# Altium schematic symbol library USB_HUB_VL813_1.SCHLIB: 47 symbols
Pins are listed as number, name and electrical type; pins without a type are passive.

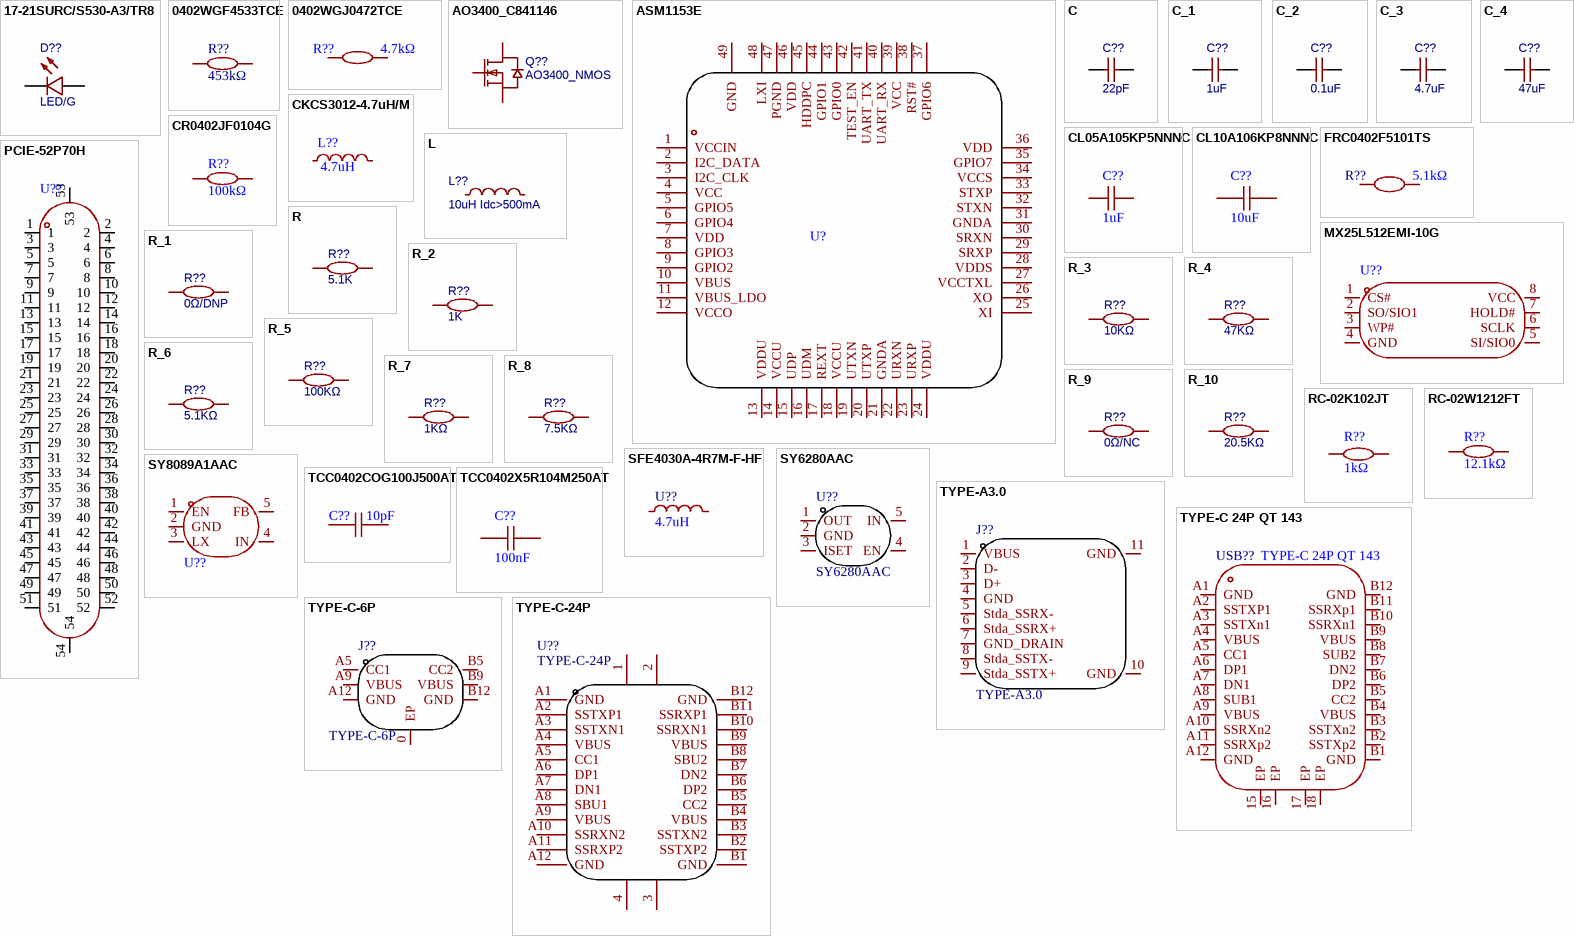
[diagram p0: symbols 17-21SURC/S530-A3/TR8 to TYPE-C-24P]

## 17-21SURC/S530-A3/TR8
designator D??, comment LED/G
BOM_Manufacturer: EVERLIGHT; BOM_Manufacturer Part: 17-21SURC/S530-A3/TR8; BOM_Supplier: LCSC; BOM_Supplier Part: C72037; BOM_JLCPCB Part Class: Extended Part; spicePre: L; spiceSymbolName: 17-21SURC/S530-A3/TR8
footprint LED0805-R-RD
pins: 1 A, 2 C

## 0402WGF4533TCE
designator R??, comment 453kΩ
Manufacturer: UNI-ROYAL(厚声); Symbol: 0402WGF4533TCE; Add into BOM: yes; Tolerance: ±1%; Power(Watts): 62.5mW; Overload Voltage (Max): 50V; Temperature Coefficient: ±100ppm/℃; Device: 0402WGF4533TCE; Supplier: LCSC; Manufacturer Part: 0402WGF4533TCE; Supplier Part: C27009; JLCPCB Part Class: Extended Part; LCSC Part Name: 453kΩ ±1% 62.5mW 厚膜电阻; Supplier Footprint: 0402; Datasheet: https://atta.szlcsc.com/upload/public/pdf/source/20200306/C422600_1E6D84923E4A46A82E41ADD87F860B5C.pdf; Convert to PCB: yes; Type: 厚膜电阻; Operating Temperature Range: -55℃~+155℃; Value: 453kΩ
footprint R0402
3D model R0402_L1.0-W0.5-H0.5
pins: 1, 2

## 0402WGJ0472TCE
designator R??, comment 4.7kΩ
Manufacturer: UNI-ROYAL(厚声); Symbol: 0402WGJ0472TCE; Add into BOM: yes; Tolerance: ±5%; Power(Watts): 1/16W; Temperature Coefficient: ±100ppm/; Overload Voltage (Max): 50V; Device: 0402WGJ0472TCE; LCSC Part Name: 4.7kΩ ±5%; Supplier Part: C25940; Manufacturer Part: 0402WGJ0472TCE; Supplier Footprint: 0402; JLCPCB Part Class: Extended Part; Datasheet: https://atta.szlcsc.com/upload/public/pdf/source/20200306/C422600_1E6D84923E4A46A82E41ADD87F860B5C.pdf; Supplier: LCSC; Convert to PCB: yes; Type: 厚膜电阻; Value: 4.7kΩ; Operating Temperature Range: -55~+155
footprint R0402
3D model R0402_L1.0-W0.5-H0.5
pins: 1, 2

## AO3400_C841146
designator Q??, comment AO3400_NMOS
BOM_Manufacturer: LGE; BOM_Manufacturer Part: AO3400; Contributor: LCSC; BOM_Supplier: LCSC; BOM_Supplier Part: C841146; BOM_JLCPCB Part Class: Extended Part; spicePre: Q; spiceSymbolName: AO3400_C841146
footprint SOT-23-3_L2.9-W1.3-P1.90-LS2.4-BR
pins: 1 G, 2 S, 3 D

## ASM1153E
designator U?  (value not drawn)
USB3.0 to SATA Bridge Controller; Add into BOM: yes; Symbol: ASM1153E; Device: ASM1153E; LCSC Part Name: ASM1153E; Supplier Part: C2762919; Manufacturer Part: ASM1153E; Supplier Footprint: LQFN-48_EP_6.0x6.0x0.4P; JLCPCB Part Class: Extended Part; Datasheet: 2021-03-22/601605W/2276bd4a79cf4165b237c0c17b58d9ef/ASM1153Datasheetv1_1.pdf; Supplier: LCSC; Convert to PCB: yes
footprint QFN-48_L6.0-W6.0-P0.40-BL-EP4.2
3D model QFN-48_L6.0-W6.0-H0.9-P0.40-BL-EP4.2
pins: 1 VCCIN, 2 I2C_DATA, 3 I2C_CLK, 4 VCC, 5 GPIO5, 6 GPIO4, 7 VDD, 8 GPIO3, 9 GPIO2, 10 VBUS, 11 VBUS_LDO, 12 VCCO, 13 VDDU, 14 VCCU, 15 UDP, 16 UDM, 17 REXT, 18 VCCU, 19 UTXN, 20 UTXP, 21 GNDA, 22 URXN, 23 URXP, 24 VDDU, 25 XI, 26 XO, 27 VCCTXL, 28 VDDS, 29 SRXP, 30 SRXN, 31 GNDA, 32 STXN, 33 STXP, 34 VCCS, 35 GPIO7, 36 VDD, 37 GPIO6, 38 RST#, 39 VCC, 40 UART_RX, 41 UART_TX, 42 TEST_EN, 43 GPIO0, 44 GPIO1, 45 HDDPC, 46 VDD, 47 PGND, 48 LXI, 49 GND

## C
designator C??, comment 22pF
BOM_Manufacturer: FH; BOM_Manufacturer Part: 0603F104M500NT; nameAlias: Capacitance; BOM_Supplier: LCSC; BOM_Supplier Part: C42998; BOM_JLCPCB Part Class: Extended Part; spicePre: C; spiceSymbolName: 0603F104M500NT
footprint C0603
footprint C0805
pins: 1, 2

## C_1
designator C??, comment 1uF
BOM_Manufacturer: FH; BOM_Manufacturer Part: 0603F104M500NT; nameAlias: Capacitance; BOM_Supplier: LCSC; BOM_Supplier Part: C42998; BOM_JLCPCB Part Class: Extended Part; spicePre: C; spiceSymbolName: 0603F104M500NT
footprint C0603
footprint C0805
pins: 1, 2

## C_2
designator C??, comment 0.1uF
BOM_Manufacturer: FH; BOM_Manufacturer Part: 0603F104M500NT; nameAlias: Capacitance; BOM_Supplier: LCSC; BOM_Supplier Part: C42998; BOM_JLCPCB Part Class: Extended Part; spicePre: C; spiceSymbolName: 0603F104M500NT
footprint C0603
footprint C0805
pins: 1, 2

## C_3
designator C??, comment 4.7uF
BOM_Manufacturer: FH; BOM_Manufacturer Part: 0603F104M500NT; nameAlias: Capacitance; BOM_Supplier: LCSC; BOM_Supplier Part: C42998; BOM_JLCPCB Part Class: Extended Part; spicePre: C; spiceSymbolName: 0603F104M500NT
footprint C0603
footprint C0805
pins: 1, 2

## C_4
designator C??, comment 47uF
BOM_Manufacturer: FH; BOM_Manufacturer Part: 0603F104M500NT; nameAlias: Capacitance; BOM_Supplier: LCSC; BOM_Supplier Part: C42998; BOM_JLCPCB Part Class: Extended Part; spicePre: C; spiceSymbolName: 0603F104M500NT
footprint C5*5
footprint C0805
pins: 1, 2

## CKCS3012-4.7uH/M
designator L??, comment 4.7uH
Manufacturer: CENKER(岑科); Symbol: CKCS3012-4.7UH/M; Add into BOM: yes; Tolerance: ±20%; Rated Current: 1.24A; DC Resistance (DCR): 120mΩ; Device: CKCS3012-4.7uH/M; LCSC Part Name: 4.7uH ±20% 1.24A 120mΩ; Supplier Part: C354557; Manufacturer Part: CKCS3012-4.7uH/M; Supplier Footprint: SMD; JLCPCB Part Class: Extended Part; Datasheet: https://atta.szlcsc.com/upload/public/pdf/source/20190115/C354557_61A3705615E4FADB9C94D2137EE09B6B.pdf; Supplier: LCSC; Convert to PCB: yes; Value: 4.7uH
footprint IND-SMD_L3.0-W3.0-1
3D model IND-SMD_L3.0-W3.0-1
pins: 1, 2

## CL05A105KP5NNNC
designator C??, comment 1uF
Manufacturer: SAMSUNG(三星); Symbol: CL05A105KP5NNNC; Add into BOM: yes; Tolerance: ±10%; Voltage Rated: 10V; Temperature Coefficient: X5R; Device: CL05A105KP5NNNC; LCSC Part Name: 1uF ±10% 10V; Supplier Part: C14445; Manufacturer Part: CL05A105KP5NNNC; Supplier Footprint: 0402; JLCPCB Part Class: Extended Part; Datasheet: https://atta.szlcsc.com/upload/public/pdf/source/20160103/1457707670698.pdf; Supplier: LCSC; Convert to PCB: yes; Value: 1uF
footprint C0402
3D model C0402_L1.0-W0.5-H0.5
pins: 1, 2

## CL10A106KP8NNNC
designator C??, comment 10uF
Manufacturer: SAMSUNG(三星); Symbol: CL10A106KP8NNNC; Add into BOM: yes; Tolerance: ±10%; Voltage Rated: 10V; Temperature Coefficient: X5R; Device: CL10A106KP8NNNC; LCSC Part Name: 10uF ±10% 10V; Supplier Part: C19702; Manufacturer Part: CL10A106KP8NNNC; Supplier Footprint: 0603; JLCPCB Part Class: Basic Part; Datasheet: https://atta.szlcsc.com/upload/public/pdf/source/20160103/1457707703378.pdf; Supplier: LCSC; Convert to PCB: yes; Value: 10uF
footprint C0603
3D model C0603_L1.6-W0.8-H0.8
pins: 1, 2

## CR0402JF0104G
designator R??, comment 100kΩ
Manufacturer: LIZ(丽智电子); Symbol: CR0402JF0104G; Add into BOM: yes; Tolerance: ±5%; Power(Watts): 62.5mW; Temperature Coefficient: ±200ppm/; Overload Voltage (Max): 50V; Device: CR0402JF0104G; LCSC Part Name: 100kΩ ±5% 62.5mW; Supplier Part: C100573; Manufacturer Part: CR0402JF0104G; Supplier Footprint: 0402; JLCPCB Part Class: Extended Part; Datasheet: https://atta.szlcsc.com/upload/public/pdf/source/20170408/1491631220702.pdf; Supplier: LCSC; Convert to PCB: yes; Type: 厚膜电阻; Operating Temperature Range: -55~+125; Value: 100kΩ
footprint R0402
3D model R0402_L1.0-W0.5-H0.5
pins: 1, 2

## FRC0402F5101TS
designator R??, comment 5.1kΩ
Manufacturer: FOJAN(富捷); Symbol: FRC0402F5101TS; Add into BOM: yes; Tolerance: ±1%; Power(Watts): 62.5mW; Overload Voltage (Max): 50V; Temperature Coefficient: ±100ppm/℃; Device: FRC0402F5101TS; LCSC Part Name: 5.1kΩ ±1% 62.5mW 厚膜电阻; Supplier Part: C2906874; Manufacturer Part: FRC0402F5101TS; Supplier Footprint: 0402; JLCPCB Part Class: 扩展库; Datasheet: https://atta.szlcsc.com/upload/public/pdf/source/20211221/925EC7D7225764EE0046F22065062C87.pdf; Supplier: LCSC; Convert to PCB: yes; Type: 厚膜电阻; Value: 5.1kΩ; Operating Temperature Range: -55℃~+155℃
footprint R0402
3D model R0402_L1.0-W0.5-H0.4
pins: 1, 2

## L
designator L??, comment 10uH Idc>500mA
BOM_Manufacturer Part: VHF160808H33NJT; BOM_Manufacturer: FH; nameAlias: Inductance; BOM_Supplier: LCSC; BOM_Supplier Part: C90209; BOM_JLCPCB Part Class: Extended Part; spicePre: L; spiceSymbolName: VHF160808H33NJT
footprint L0603
footprint Inductor
pins: 1, 2

## MX25L512EMI-10G
designator U??  (value not drawn)
Manufacturer: MXIC(旺宏电子); Symbol: MX25L512EMI-10G_C2803023; Add into BOM: yes; Device: MX25L512EMI-10G; LCSC Part Name: MX25L512EMI-10G; Supplier Part: C2803023; Manufacturer Part: MX25L512EMI-10G; Supplier Footprint: SOP-8; JLCPCB Part Class: Extended Part; Datasheet: https://atta.szlcsc.com/upload/public/pdf/source/20210906/B454D1B9C39ED3C00F3164A690CF7DD8.pdf; Supplier: LCSC; Convert to PCB: yes
footprint SOP-8_L5.0-W4.0-P1.27-LS6.0-BL
3D model SOP-8_L5.0-W4.0-H1.8-LS6.2-P1.27
pins: 1 CS#, 2 SO/SIO1, 3 WP#, 4 GND, 5 SI/SIO0, 6 SCLK, 7 HOLD#, 8 VCC

## PCIE-52P70H
designator U??  (value not drawn)
Manufacturer: XUNPU(讯普); Symbol: PCIE-52P70H_C2982554; Add into BOM: yes; Device: PCIE-52P70H; LCSC Part Name: PCIE-52P70H; Supplier Part: C2982554; Manufacturer Part: PCIE-52P70H; Supplier Footprint: SMD; JLCPCB Part Class: Extended Part; Datasheet: https://atta.szlcsc.com/upload/public/pdf/source/20220311/DC8B167F9A8E29C645B8AA97E9059897.pdf; Supplier: LCSC; Convert to PCB: yes
footprint PCIE-SMD_52P-P0.80_PCIE-52PXXH
3D model PCIE-SMD_52P-P0.80_PCIE-52PXXH
pins: 1, 2, 3, 4, 5, 6, 7, 8, 9, 10, 11, 12, 13, 14, 15, 16, 17, 18, 19, 20, 21, 22, 23, 24, 25, 26, 27, 28, 29, 30, 31, 32, 33, 34, 35, 36, 37, 38, 39, 40, 41, 42, 43, 44, 45, 46, 47, 48, 49, 50, 51, 52, 53, 54

## R
designator R??, comment 5.1K
BOM_Manufacturer: Guangdong Fenghua Advanced Tech; BOM_Manufacturer Part: RS-03K1002FT; Resistance (Ohms): 10K; nameAlias: Resistance; Contributor: LCSC; BOM_Supplier: LCSC; BOM_Supplier Part: C115324; spicePre: R; spiceSymbolName: RS-03K1002FT
footprint R0603
footprint R0805
pins: 1, 2

## R_1
designator R??, comment 0Ω/DNP
BOM_Manufacturer: Guangdong Fenghua Advanced Tech; BOM_Manufacturer Part: RS-03K1002FT; Resistance (Ohms): 10K; nameAlias: Resistance; Contributor: LCSC; BOM_Supplier: LCSC; BOM_Supplier Part: C115324; spicePre: R; spiceSymbolName: RS-03K1002FT
footprint R0603
footprint R0805
pins: 1, 2

## R_2
designator R??, comment 1K
BOM_Manufacturer: Guangdong Fenghua Advanced Tech; BOM_Manufacturer Part: RS-03K1002FT; Resistance (Ohms): 10K; nameAlias: Resistance; Contributor: LCSC; BOM_Supplier: LCSC; BOM_Supplier Part: C115324; spicePre: R; spiceSymbolName: RS-03K1002FT
footprint R0603
footprint R0805
pins: 1, 2

## R_3
designator R??, comment 10KΩ
BOM_Manufacturer: Guangdong Fenghua Advanced Tech; BOM_Manufacturer Part: RS-03K1002FT; Resistance (Ohms): 10K; nameAlias: Resistance; Contributor: LCSC; BOM_Supplier: LCSC; BOM_Supplier Part: C115324; spicePre: R; spiceSymbolName: RS-03K1002FT
footprint R0603
footprint R0805
pins: 1, 2

## R_4
designator R??, comment 47KΩ
BOM_Manufacturer: Guangdong Fenghua Advanced Tech; BOM_Manufacturer Part: RS-03K1002FT; Resistance (Ohms): 10K; nameAlias: Resistance; Contributor: LCSC; BOM_Supplier: LCSC; BOM_Supplier Part: C115324; spicePre: R; spiceSymbolName: RS-03K1002FT
footprint R0603
footprint R0805
pins: 1, 2

## R_5
designator R??, comment 100KΩ
BOM_Manufacturer: Guangdong Fenghua Advanced Tech; BOM_Manufacturer Part: RS-03K1002FT; Resistance (Ohms): 10K; nameAlias: Resistance; Contributor: LCSC; BOM_Supplier: LCSC; BOM_Supplier Part: C115324; spicePre: R; spiceSymbolName: RS-03K1002FT
footprint R0603
footprint R0805
pins: 1, 2

## R_6
designator R??, comment 5.1KΩ
BOM_Manufacturer: Guangdong Fenghua Advanced Tech; BOM_Manufacturer Part: RS-03K1002FT; Resistance (Ohms): 10K; nameAlias: Resistance; Contributor: LCSC; BOM_Supplier: LCSC; BOM_Supplier Part: C115324; spicePre: R; spiceSymbolName: RS-03K1002FT
footprint R0603
footprint R0805
pins: 1, 2

## R_7
designator R??, comment 1KΩ
BOM_Manufacturer: Guangdong Fenghua Advanced Tech; BOM_Manufacturer Part: RS-03K1002FT; Resistance (Ohms): 10K; nameAlias: Resistance; Contributor: LCSC; BOM_Supplier: LCSC; BOM_Supplier Part: C115324; spicePre: R; spiceSymbolName: RS-03K1002FT
footprint R0603
footprint R0805
pins: 1, 2

## R_8
designator R??, comment 7.5KΩ
BOM_Manufacturer: Guangdong Fenghua Advanced Tech; BOM_Manufacturer Part: RS-03K1002FT; Resistance (Ohms): 10K; nameAlias: Resistance; Contributor: LCSC; BOM_Supplier: LCSC; BOM_Supplier Part: C115324; spicePre: R; spiceSymbolName: RS-03K1002FT
footprint R0603
footprint R0805
pins: 1, 2

## R_9
designator R??, comment 0Ω/NC
BOM_Manufacturer: Guangdong Fenghua Advanced Tech; BOM_Manufacturer Part: RS-03K1002FT; Resistance (Ohms): 10K; nameAlias: Resistance; Contributor: LCSC; BOM_Supplier: LCSC; BOM_Supplier Part: C115324; spicePre: R; spiceSymbolName: RS-03K1002FT
footprint R0603
footprint R0805
pins: 1, 2

## R_10
designator R??, comment 20.5KΩ
BOM_Manufacturer: Guangdong Fenghua Advanced Tech; BOM_Manufacturer Part: RS-03K1002FT; Resistance (Ohms): 10K; nameAlias: Resistance; Contributor: LCSC; BOM_Supplier: LCSC; BOM_Supplier Part: C115324; spicePre: R; spiceSymbolName: RS-03K1002FT
footprint R0603
footprint R0805
pins: 1, 2

## RC-02K102JT
designator R??, comment 1kΩ
Manufacturer: FH(风华); Symbol: RS-02K102JT; Device: RC-02K102JT; Add into BOM: yes; Tolerance: ±5%; Power(Watts): 62.5mW; Temperature Coefficient: ±100ppm/; Overload Voltage (Max): 50V; LCSC Part Name: 1kΩ ±5% 62.5mW; Supplier Part: C140196; Manufacturer Part: RC-02K102JT; Supplier Footprint: 0402; JLCPCB Part Class: Extended Part; Datasheet: https://atta.szlcsc.com/upload/public/pdf/source/20171106/C140196_15099446043381092285.pdf; Supplier: LCSC; Convert to PCB: yes; Value: 1kΩ; Operating Temperature Range: -55~+155
footprint R0402
3D model R0402_L1.0-W0.5-H0.5
pins: 1, 2

## RC-02W1212FT
designator R??, comment 12.1kΩ
Manufacturer: FH(风华); Symbol: RC-02W1212FT; Add into BOM: yes; Tolerance: ±1%; Power(Watts): 62.5mW; Temperature Coefficient: ±200ppm/; Overload Voltage (Max): 50V; Device: RC-02W1212FT; LCSC Part Name: 12.1kΩ ±1% 62.5mW; Supplier Part: C321280; Manufacturer Part: RC-02W1212FT; Supplier Footprint: 0402; JLCPCB Part Class: Extended Part; Datasheet: https://atta.szlcsc.com/upload/public/pdf/source/20181129/C321280_9F126374E01D2C505D3C2BDB1D16BD85.pdf; Supplier: LCSC; Convert to PCB: yes; Value: 12.1kΩ; Operating Temperature Range: -55~+155
footprint R0402
3D model R0402_L1.0-W0.5-H0.5
pins: 1, 2

## SFE4030A-4R7M-F-HF
designator U??, comment 4.7uH
Manufacturer: DDY(德立); Symbol: SFE4030A-4R7M-F-HF; Add into BOM: yes; Tolerance: ±20%; Rated Current: 2.3A; Saturation Current (Isat): 3.2A; DC Resistance (DCR): 67mΩ; Device: SFE4030A-4R7M-F-HF; LCSC Part Name: 4.7uH ±20% 3.2A; Supplier Part: C5159670; Manufacturer Part: SFE4030A-4R7M-F-HF; Supplier Footprint: SMD,4x4mm; JLCPCB Part Class: 扩展库; Datasheet: https://atta.szlcsc.com/upload/public/pdf/source/20221009/E6A1C7112975AA831F7D1355BB828BA7.pdf; Supplier: LCSC; Convert to PCB: yes; Value: 4.7uH
footprint IND-SMD_L4.0-W4.0
3D model IND-SMD_L4.0-W4.0-H1.9
pins: 1, 2

## SY6280AAC
designator U??
footprint SOT-23-5_L3.0-W1.7-P0.95-LS2.8-BR
pins: 1 OUT, 2 GND, 3 ISET, 4 EN, 5 IN

## SY8089A1AAC
designator U??  (value not drawn)
Manufacturer: silergy(矽力杰); Add into BOM: yes; Symbol: SY8089A1AAC; Device: SY8089A1AAC; LCSC Part Name: SY8089A1AAC; Supplier Part: C479074; Manufacturer Part: SY8089A1AAC; Supplier Footprint: SOT-23-5; JLCPCB Part Class: 扩展库; Datasheet: https://atta.szlcsc.com/upload/public/pdf/source/20200117/C479074_09E605B8BDE11DB5A08573B7E6429A0D.pdf; Supplier: LCSC; Convert to PCB: yes
footprint TSOT-23-5_L2.9-W1.6-P0.95-LS2.8-BR
3D model TSOT-23-5_L2.9-W1.6-H1.00-LS2.8-P0.95
pins: 1 EN, 2 GND, 3 LX, 4 IN, 5 FB

## TCC0402COG100J500AT
designator C??, comment 10pF
Manufacturer: CCTC(三环); Symbol: TCC0402COG100J500AT; Add into BOM: yes; Tolerance: ±5%; Voltage Rated: 50V; Temperature Coefficient: C0G; Device: TCC0402COG100J500AT; LCSC Part Name: 10pF ±5% 50V; Supplier Part: C696913; Manufacturer Part: TCC0402COG100J500AT; Supplier Footprint: 0402; JLCPCB Part Class: Extended Part; Datasheet: https://atta.szlcsc.com/upload/public/pdf/source/20200707/C696841_89A2C111301AB76AE7642008585E7A11.pdf; Supplier: LCSC; Convert to PCB: yes; Value: 10pF
footprint C0402
3D model C0402_L1.0-W0.5-H0.5
pins: 1, 2

## TCC0402X5R104M250AT
designator C??, comment 100nF
Manufacturer: CCTC(三环); Symbol: TCC0402X5R104M250AT; Add into BOM: yes; Tolerance: ±20%; Voltage Rated: 25V; Temperature Coefficient: X5R; Device: TCC0402X5R104M250AT; LCSC Part Name: 100nF ±20% 25V; Supplier Part: C359190; Manufacturer Part: TCC0402X5R104M250AT; Supplier Footprint: 0402; JLCPCB Part Class: Extended Part; Datasheet: https://atta.szlcsc.com/upload/public/pdf/source/20190103/C359190_40860758378AF13613616C0AB9EED028.pdf; Supplier: LCSC; Convert to PCB: yes; Value: 100nF
footprint C0402
3D model C0402_L1.0-W0.5-H0.5
pins: 1, 2

## TYPE-A3.0
designator J??
footprint TYPE-A3.0
pins: 1 VBUS, 2 D-, 3 D+, 4 GND, 5 Stda_SSRX-, 6 Stda_SSRX+, 7 GND_DRAIN, 8 Stda_SSTX-, 9 Stda_SSTX+, 10 GND, 11 GND

## TYPE-C 24P QT 143
designator USB??
Manufacturer: SHOU HAN(首韩); Add into BOM: yes; Gender: 母; Number of Ports: 1; Current Rating - Power (Max): 5A; Connect-Disconnect Life: 1万次; Core Colour: 黑色; Symbol: TYPE-C 24P QT 143; Device: TYPE-C 24P QT 143; LCSC Part Name: Type-C 母 卧贴; Supplier Part: C5156605; Manufacturer Part: TYPE-C 24P QT 143; Supplier Footprint: SMD; JLCPCB Part Class: 扩展库; Datasheet: https://atta.szlcsc.com/upload/public/pdf/source/20220831/D9AE5CFF2AD0EFBF4D20F10BBA9527F7.pdf; Supplier: LCSC; Convert to PCB: yes; Connector Type: Type-C; Standard: USB 3.1; Mounting Style: 卧贴; Number of Contacts: 24P; Contact Material: -; Contact Plating: -; Operating Temperature Range: -30℃~+85℃; Soldering Temperature(Max): -
footprint TYPE-C-SMD_C9900025773
3D model TYPE-C-SMD_C9900025773
pins: 15 EP, 16 EP, 17 EP, 18 EP, A1 GND, A2 SSTXP1, A3 SSTXn1, A4 VBUS, A5 CC1, A6 DP1, A7 DN1, A8 SUB1, A9 VBUS, A10 SSRXn2, A11 SSRXp2, A12 GND, B1 GND, B2 SSTXp2, B3 SSTXn2, B4 VBUS, B5 CC2, B6 DP2, B7 DN2, B8 SUB2, B9 VBUS, B10 SSRXn1, B11 SSRXp1, B12 GND

## TYPE-C-6P
designator J??
footprint TYPE-C-6P
pins: 0 EP, A5 CC1, A9 VBUS, A12 GND, B5 CC2, B9 VBUS, B12 GND

## TYPE-C-24P
designator U??
Parameter 1: *
footprint TYPE-C-24P
pins: 1, 2, 3, 4, A1 GND, A2 SSTXP1, A3 SSTXN1, A4 VBUS, A5 CC1, A6 DP1, A7 DN1, A8 SBU1, A9 VBUS, A10 SSRXN2, A11 SSRXP2, A12 GND, B1 GND, B2 SSTXP2, B3 SSTXN2, B4 VBUS, B5 CC2, B6 DP2, B7 DN2, B8 SBU2, B9 VBUS, B10 SSRXN1, B11 SSRXP1, B12 GND

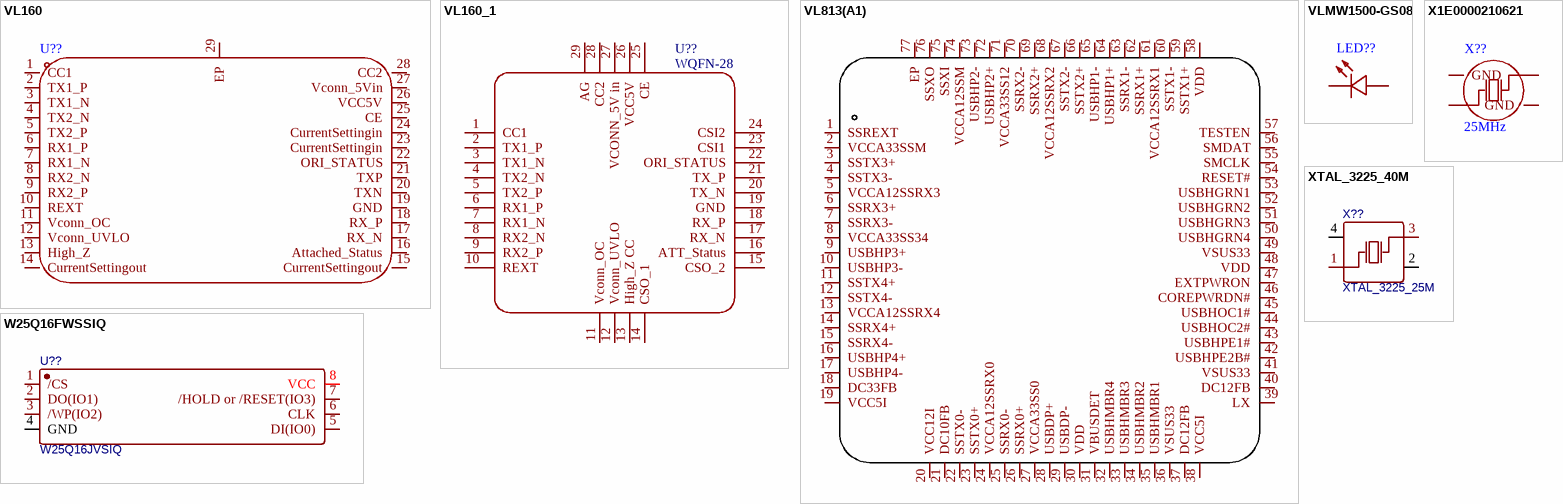
[diagram p1: symbols VL160 to XTAL_3225_40M]

## VL160
designator U??  (value not drawn)
Add into BOM: yes; Symbol: VL160; Device: VL160; LCSC Part Name: VL160; Supplier Part: C2841472; Manufacturer Part: VL160; Supplier Footprint: MQFN-28; JLCPCB Part Class: Extended Part; Datasheet: https://atta.szlcsc.com/upload/public/pdf/source/20210707/C2841472_23203D4DC0B460F77735B81667EEBB6C.pdf; Supplier: LCSC; Convert to PCB: yes; Type: -; Protocol: -; Number of Drivers/Receivers: -; Data Rate: -; Supply Voltage: -
footprint MQFN-28_L4.5-W3.5-P0.40-BL-EP
3D model MQFN-28_L4.5-W3.5-P0.40-BL-EP
pins: 1 CC1, 2 TX1_P, 3 TX1_N, 4 TX2_N, 5 TX2_P, 6 RX1_P, 7 RX1_N, 8 RX2_N, 9 RX2_P, 10 REXT, 11 Vconn_OC, 12 Vconn_UVLO, 13 High_Z, 14 CurrentSettingout, 15 CurrentSettingout, 16 Attached_Status, 17 RX_N, 18 RX_P, 19 GND, 20 TXN, 21 TXP, 22 ORI_STATUS, 23 CurrentSettingin, 24 CurrentSettingin, 25 CE, 26 VCC5V, 27 Vconn_5Vin, 28 CC2, 29 EP

## VL160_1
designator U??, comment WQFN-28
footprint WQFN-28
footprint WQFN-28
pins: 1 CC1, 2 TX1_P, 3 TX1_N, 4 TX2_N, 5 TX2_P, 6 RX1_P, 7 RX1_N, 8 RX2_N, 9 RX2_P, 10 REXT, 11 Vconn_OC, 12 Vconn_UVLO, 13 High_Z CC, 14 CSO_1, 15 CSO_2, 16 ATT_Status, 17 RX_N, 18 RX_P, 19 GND, 20 TX_N, 21 TX_P, 22 ORI_STATUS, 23 CSI1, 24 CSI2, 25 CE, 26 VCC5V, 27 VCONN_5V in, 28 CC2, 29 AG

## VL813(A1)
designator U??  (value not drawn)
Manufacturer: VIA(台湾威盛电子); Symbol: VL813(A1)_C209755; Add into BOM: yes; Name: VL813(A1); Device: VL813(A1); LCSC Part Name: VL813(A1); Supplier Part: C209755; Manufacturer Part: VL813(A1); Supplier Footprint: QFN-76_9x9x04P; JLCPCB Part Class: Extended Part; Datasheet: https://atta.szlcsc.com/upload/public/pdf/source/20180420/C209755_1BF0F45DD04BFA941B7FD492504FA511.pdf; Supplier: LCSC; Convert to PCB: yes; Type: -; Protocol: -; Number of Drivers/Receivers: -; Data Rate: -; Supply Voltage: -
footprint QFN-76
pins: 1 SSREXT, 2 VCCA33SSM, 3 SSTX3+, 4 SSTX3-, 5 VCCA12SSRX3, 6 SSRX3+, 7 SSRX3-, 8 VCCA33SS34, 9 USBHP3+, 10 USBHP3-, 11 SSTX4+, 12 SSTX4-, 13 VCCA12SSRX4, 14 SSRX4+, 15 SSRX4-, 16 USBHP4+, 17 USBHP4-, 18 DC33FB, 19 VCC5I, 20 VCC12I, 21 DC10FB, 22 SSTX0-, 23 SSTX0+, 24 VCCA12SSRX0, 25 SSRX0-, 26 SSRX0+, 27 VCCA33SS0, 28 USBDP+, 29 USBDP-, 30 VDD, 31 VBUSDET, 32 USBHMBR4, 33 USBHMBR3, 34 USBHMBR2, 35 USBHMBR1, 36 VSUS33, 37 DC12FB, 38 VCC5I, 39 LX, 40 DC12FB, 41 VSUS33, 42 USBHPE2B#, 43 USBHPE1#, 44 USBHOC2#, 45 USBHOC1#, 46 COREPWRDN#, 47 EXTPWRON, 48 VDD, 49 VSUS33, 50 USBHGRN4, 51 USBHGRN3, 52 USBHGRN2, 53 USBHGRN1, 54 RESET#, 55 SMCLK, 56 SMDAT, 57 TESTEN, 58 VDD, 59 SSTX1+, 60 SSTX1-, 61 VCCA12SSRX1, 62 SSRX1+, 63 SSRX1-, 64 USBHP1+, 65 USBHP1-, 66 SSTX2+, 67 SSTX2-, 68 VCCA12SSRX2, 69 SSRX2+, 70 SSRX2-, 71 VCCA33SS12, 72 USBHP2+, 73 USBHP2-, 74 VCCA12SSM, 75 SSXI, 76 SSXO, 77 EP

## VLMW1500-GS08
designator LED??  (value not drawn)
Manufacturer: VISHAY(威世); Add into BOM: yes; Emitted Color: 白灯; Forward Current: 5mA; Forward Voltage (VF): 2.9V; Luminous Intensity: 90mcd; Power Dissipation: 70mW; Symbol: VLMW1500-GS08; Device: VLMW1500-GS08; LCSC Part Name: 白灯; Supplier Part: C511379; Manufacturer Part: VLMW1500-GS08; Supplier Footprint: 0402; JLCPCB Part Class: Extended Part; Datasheet: https://atta.szlcsc.com/upload/public/pdf/source/20200408/C511379_C2F59698F604A60E2C48FD851172BBA0.pdf; Supplier: LCSC; Convert to PCB: yes; Diode Configuration: -; Lens Color: -; Dominant Wavelength: -; Peak Wavelength: -; Color Temperature: -; Luminous Flux (@25℃): -; Viewing Angle: -; Mounting Sytle: -; Operating Temperature: -30~+80
footprint LED0402-R-RD_WHITE
3D model LED0402-R-RD_WHITE
pins: 1 A, 2 K

## W25Q16FWSSIQ
designator U??, comment W25Q16JVSIQ
BOM_Manufacturer: Winbond Elec; BOM_Manufacturer Part: W25Q16FWSSIQ; Contributor: LCSC; BOM_Supplier: LCSC; BOM_Supplier Part: C377629; BOM_JLCPCB Part Class: Extended Part; spicePre: U; spiceSymbolName: W25Q16FWSSIQ
footprint SOIC-8_L5.3-W5.3-P1.27-LS8.0-BL
pins: 1 /CS, 2 DO(IO1), 3 /WP(IO2), 4 GND, 5 DI(IO0), 6 CLK, 7 /HOLD or /RESET(IO3), 8 VCC

## X1E0000210621
designator X??, comment 25MHz
Manufacturer: EPSON(爱普生); Symbol: X1E0000210621; Add into BOM: yes; Crystal Type: 贴片无源晶振; Frequency Tolerance: ±10ppm; Load Capacitance: 9pF; Equivalent Series Resistance (ESR): 40Ω; Device: X1E0000210621; LCSC Part Name: 25MHz ±10ppm 9pF; Supplier Part: C255920; Manufacturer Part: X1E0000210621; Supplier Footprint: SMD3225-4P; JLCPCB Part Class: Extended Part; Datasheet: https://atta.szlcsc.com/upload/public/pdf/source/20180822/C255920_F9528E19433D1B377CB88CCBF483E490.pdf; Supplier: LCSC; Convert to PCB: yes; Value: 25MHz; Frequency Stability: -; Operating Temperature: -40~+85
footprint CRYSTAL-SMD_4P-L3.2-W2.5-BL
3D model OSC-SMD_4P-L3.2-W2.5-H1.0
pins: 1 OSC1, 2 GND, 3 OSC2, 4 GND

## XTAL_3225_40M
designator X??, comment XTAL_3225_25M
BOM_Manufacturer: YXC; BOM_Manufacturer Part: X322540MPB4SI; nameAlias: Frequency; BOM_Supplier: LCSC; BOM_Supplier Part: C9010; BOM_JLCPCB Part Class: Extended Part; spicePre: X; spiceSymbolName: X322540MPB4SI
footprint OSC-SMD_4P-L3.2-W2.5-BL_SIT8008BI
pins: 1 OSC1, 2 GND, 3 OSC2, 4 GND